# EAGLE library part APA102 (library Eric Navarrete Custom Parts Feb 2019)
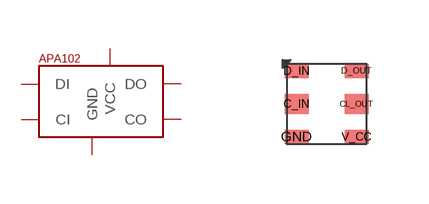
[diagram p28: symbol with the pads of APA102_2020; footprint APA102_2020]

Designator prefix D

## APA102  [APA102_2020]
C_IN  CI
CL_OUT  CO
D_IN  DI
D_OUT  DO
GND  GND
V_CC  VCC

## Footprint APA102_2020 (pad centres in mm)
smd 0.6 x 0.5: C_IN 0.25,-1.032; CL_OUT 1.75,-1.032
smd 0.6 x 0.35: D_IN 0.25,-0.207; D_OUT 1.75,-0.207; GND 0.25,-1.857; V_CC 1.75,-1.857